# Altium schematic symbol library Switch.SchLib: 18 symbols
Pins are listed as number, name and electrical type; pins without a type are passive.

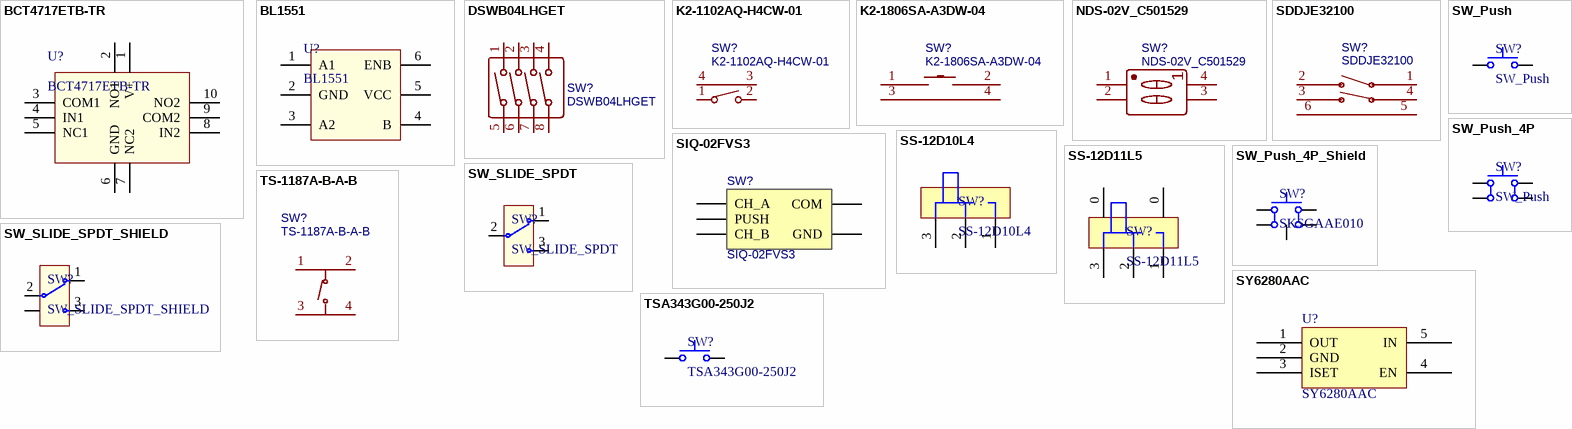
[diagram p0: symbols BCT4717ETB-TR to TSA343G00-250J2]

## BCT4717ETB-TR
designator U?
4.0Ω, 300MHz Bandwidth, Dual SPDT Analog Switch
footprint WQFN-10_1.4x1.8mm_P0.4mm (PQFN, 10-Leads, Body 1.40x1.80mm, Pitch 0.40mm, IPC Medium Density)
pins: 1 V+, 2 NO1, 3 COM1, 4 IN1, 5 NC1, 6 GND, 7 NC2, 8 IN2, 9 COM2, 10 NO2

## BL1551
designator U?
2.7Ω Low Voltage SPDT Analog Switch in 6-pin SC70
footprint SC-70-6 (SOT23, 6-Leads, Body 2.00x2.10mm, Pitch 0.65mm, IPC Medium Density)
pins: 1 A1, 2 GND, 3 A2, 4 B, 5 VCC, 6 ENB

## DSWB04LHGET
designator SW?
BOM_Manufacturer: Dongguan Guangzhu Industrial; Contributor: LCSC; BOM_Paste Type: expand; BOM_Supplier: LCSC; BOM_Supplier Part: C99418; BOM_Manufacturer Part: -; spicePre: S; spiceSymbolName: DSWB04LHGET
footprint SW-TH_DSWB04LHGET
pins: 1, 2, 3, 4, 5, 6, 7, 8

## K2-1102AQ-H4CW-01
designator SW?
侧按按键; BOM_Manufacturer: 韩国韩荣; Contributor: LCSC; BOM_Supplier: LCSC; BOM_Supplier Part: C961738; BOM_Manufacturer Part: K2-1102AQ-H4CW-01; BOM_JLCPCB Part Class: Extended Part; spicePre: S; spiceSymbolName: K2-1102AQ-H4CW-01
footprint SW-TH_K2-1102BQ-G4CW-01
pins: 1, 2, 3, 4

## K2-1806SA-A3DW-04
designator SW?
侧按按键; BOM_Manufacturer: 韩国韩荣; Contributor: LCSC; BOM_Supplier: LCSC; BOM_Supplier Part: C2690015; BOM_Manufacturer Part: K2-1806SA-A3DW-04; BOM_JLCPCB Part Class: Extended Part; spicePre: S; spiceSymbolName: K2-1806SA-A3DW-04
footprint KEY-SMD_K2-1806SA-AXXW-XX
pins: 1, 2, 3, 4

## NDS-02V_C501529
designator SW?
BOM_Manufacturer: Diptronics; Contributor: LCSC; BOM_Paste Type: expand; BOM_Supplier: LCSC; BOM_Supplier Part: C501529; BOM_Manufacturer Part: NDS-02V; spicePre: S; spiceSymbolName: NDS-02V_C501529
footprint SW-TH_4P-L6.4-W9.9-P2.54-LS7.6
pins: 1 PIN1, 2 PIN2, 3 PIN3, 4 PIN4

## SDDJE32100
designator SW?
BOM_Manufacturer: ALPS Electric; Contributor: LCSC; BOM_Supplier: LCSC; BOM_Supplier Part: C470332; BOM_Manufacturer Part: SDDJE32100; BOM_JLCPCB Part Class: Extended Part; spicePre: S; spiceSymbolName: SDDJE32100
footprint SW-TH_SDDJE32100
pins: 1, 2, 3, 4, 5, 6

## SIQ-02FVS3
designator SW?
Rotary Encoder; BOM_Manufacturer: ALPSALPINE; BOM_Manufacturer Part: EC11E1534443; Contributor: LCSC; BOM_Supplier: LCSC; BOM_Supplier Part: C1322543; BOM_JLCPCB Part Class: Extended Part; spicePre: S; spiceSymbolName: EC11E1534443
footprint SIQ-02FVS3
pins: 1 CH_A, 2 PUSH, 3 COM, 4 CH_B, 5 GND

## SS-12D10L4
designator SW?
SS-12D10L4 滑动开关，单刀双掷 5A 120V
footprint SS-12D10L4
pins: 1, 2, 3

## SS-12D11L5
designator SW?
SS-12D11L5 侧滑动开关，单刀双掷 5A 120V
footprint SS-12D11L5
pins: 0 MP, 0 MP, 1, 2, 3

## SW_Push
designator SW?
Push button switch, generic, two pins
footprint SW_2P_3_5x5x4_3mm
pins: 1, 2

## SW_Push_4P
designator SW?, comment SW_Push
Push button switch, generic, 4 pins
footprint SW_4P_3.2x4.2x2.5mm
footprint SW_4P_4_5x4_5x6MM
footprint SW_4P_12x12x14mm
pins: 1, 2, 3, 4

## SW_Push_4P_Shield
designator SW?, comment SKSGAAE010
3 × 2.7mm Compact High Operating Force (Surface Mount Type)
footprint SW_4P_3.2x2.7x1.4mm_ALPS_SKSGAAE010
pins: 0, 1, 2, 3, 4

## SW_SLIDE_SPDT
designator SW?
滑动开关，单刀双掷
pins: 1, 2, 3

## SW_SLIDE_SPDT_SHIELD
designator SW?
滑动开关，单刀双掷，带外壳固定
footprint SW_3P_8_6x4_5mm_Shield
footprint SW_3P_8_6x4_5mm_Shield_SIDE
footprint SW_SPDT_6.6*2.7*2.5mm_SIDE
pins: 0, 1, 2, 3

## SY6280AAC
designator U?
USB 开关芯片
footprint SOT-23-5 (SOT23, 5-Leads, Body 2.90x2.45mm, Pitch 0.95mm, IPC Medium Density)
pins: 1 OUT, 2 GND, 3 ISET, 4 EN, 5 IN

## TS-1187A-B-A-B
designator SW?
C318884; BOM_Manufacturer: XKB Enterprise; Contributor: LCSC; BOM_Supplier: LCSC; BOM_Supplier Part: C318884; BOM_Manufacturer Part: TS-1187A-B-A-B; BOM_JLCPCB Part Class: Basic Part; spicePre: S; spiceSymbolName: TS-1187A-B-A-B
footprint SW-SMD_4P-L5.1-W5.1-P3.70-LS6.5-TL-2
pins: 1 A, 2 B, 3 C, 4 D

## TSA343G00-250J2
designator SW?
3*4 两脚小龟不带柱 250gf
footprint SW-SMD_L4.0-W2.9-LS5.0
pins: 1, 2